# EAGLE library part HCPL0731 (library optocleny)
HEWLETT PACKARD OPTO COUPLER
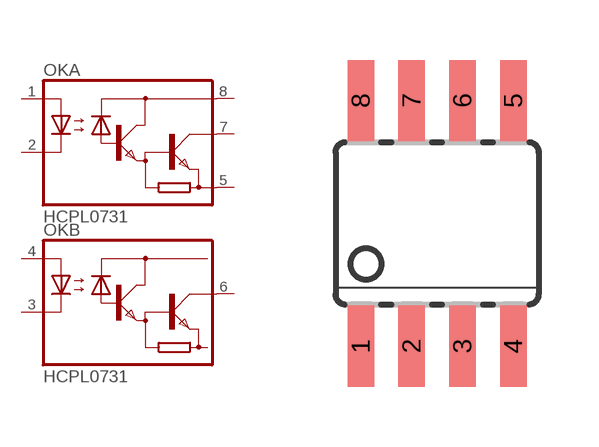
[diagram p20: symbol with the pads of SOIC08; footprint SOIC08]

Designator prefix OK; gates A=2730 B=2730A

## HCPL0731  [SOIC08]
1  A:A1  pas
2  A:C1  pas
3  B:C2  pas
4  B:A2  pas
5  A:GND  pas
6  B:VO2  pas
7  A:VO1  pas
8  A:VCC  pas

## Footprint SOIC08 (pad centres in mm)
Small Outline Package
smd 0.66 x 2.032: 1 -1.905,-3.073; 2 -0.635,-3.073; 3 0.635,-3.073; 4 1.905,-3.073; 5 1.905,3.073; 6 0.635,3.073; 7 -0.635,3.073; 8 -1.905,3.073